# Altium footprint library Invensense.PcbLib: 2 footprints
Each footprint in its own frame and in the unit in brackets; x right, y up, seen from the top. Pads: shape width x height; smd on the part's side, far side on the other; paste and mask are expansions set on the pad; w line width, h text height; cw(c..) or ccw(c..) is an arc to the next point about the centre after c.
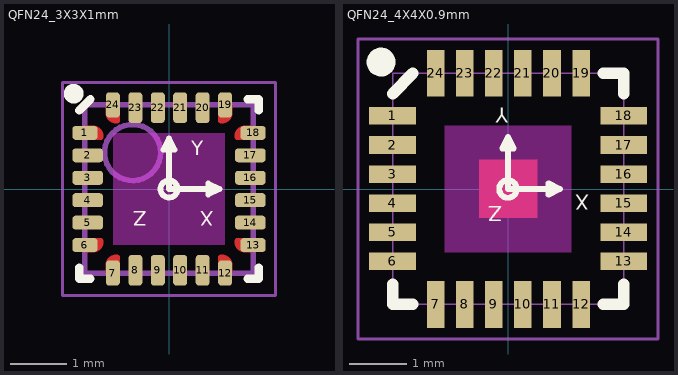
[diagram p0: the footprints below, top view; thin cyan lines are the x and y axes]

## QFN24_3X3X1mm [mm]
height 0.95
pads (24):
  rrect50% 0.45x0.25 smd: 1(-1.5,1) 6(-1.5,-1) 13(1.5,-1) 18(1.5,1)
  rrect50% 0.55x0.25 smd: 2(-1.45,0.6) 3(-1.45,0.2) 4(-1.45,-0.2) 5(-1.45,-0.6) 14(1.45,-0.6) 15(1.45,-0.2) 16(1.45,0.2) 17(1.45,0.6)
  rrect50% 0.25x0.45 smd: 7(-1,-1.5) 12(1,-1.5) 19(1,1.5) 24(-1,1.5)
  rrect50% 0.25x0.55 smd: 8(-0.6,-1.45) 9(-0.2,-1.45) 10(0.2,-1.45) 11(0.6,-1.45) 20(0.6,1.45) 21(0.2,1.45) 22(-0.2,1.45) 23(-0.6,1.45)
Top Layer:
  region: -1.5,0.875 -1.225,0.875 -1.215,0.875 -1.197,0.883 -1.183,0.897 -1.175,0.915 -1.175,0.925 -1.175,0.965 -1.175,0.979 -1.181,1.007 -1.192,1.034 -1.208,1.057 -1.218,1.068 -1.232,1.082 -1.243,1.093 -1.266,1.108 -1.293,1.119 -1.321,1.125 -1.335,1.125 -1.5,1.125
  region: -1.5,-0.875 -1.225,-0.875 -1.215,-0.875 -1.197,-0.883 -1.183,-0.897 -1.175,-0.915 -1.175,-0.925 -1.175,-0.965 -1.175,-0.979 -1.181,-1.007 -1.192,-1.034 -1.208,-1.057 -1.218,-1.068 -1.232,-1.082 -1.243,-1.093 -1.266,-1.108 -1.293,-1.119 -1.321,-1.125 -1.335,-1.125 -1.5,-1.125
  region: 0.875,-1.5 0.875,-1.225 0.875,-1.215 0.883,-1.197 0.897,-1.183 0.915,-1.175 0.925,-1.175 0.965,-1.175 0.979,-1.175 1.007,-1.181 1.034,-1.192 1.057,-1.208 1.068,-1.218 1.082,-1.232 1.093,-1.243 1.108,-1.266 1.119,-1.293 1.125,-1.321 1.125,-1.335 1.125,-1.5
  region: -0.875,-1.5 -0.875,-1.225 -0.875,-1.215 -0.883,-1.197 -0.897,-1.183 -0.915,-1.175 -0.925,-1.175 -0.965,-1.175 -0.979,-1.175 -1.007,-1.181 -1.034,-1.192 -1.057,-1.208 -1.068,-1.218 -1.082,-1.232 -1.093,-1.243 -1.108,-1.266 -1.119,-1.293 -1.125,-1.321 -1.125,-1.335 -1.125,-1.5
  region: 1.5,0.875 1.225,0.875 1.215,0.875 1.197,0.883 1.183,0.897 1.175,0.915 1.175,0.925 1.175,0.965 1.175,0.979 1.181,1.007 1.192,1.034 1.208,1.057 1.218,1.068 1.232,1.082 1.243,1.093 1.266,1.108 1.293,1.119 1.321,1.125 1.335,1.125 1.5,1.125
  region: 1.5,-0.875 1.225,-0.875 1.215,-0.875 1.197,-0.883 1.183,-0.897 1.175,-0.915 1.175,-0.925 1.175,-0.965 1.175,-0.979 1.181,-1.007 1.192,-1.034 1.208,-1.057 1.218,-1.068 1.232,-1.082 1.243,-1.093 1.266,-1.108 1.293,-1.119 1.321,-1.125 1.335,-1.125 1.5,-1.125
  region: -0.875,1.5 -0.875,1.225 -0.875,1.215 -0.883,1.197 -0.897,1.183 -0.915,1.175 -0.925,1.175 -0.965,1.175 -0.979,1.175 -1.007,1.181 -1.034,1.192 -1.057,1.208 -1.068,1.218 -1.082,1.232 -1.093,1.243 -1.108,1.266 -1.119,1.293 -1.125,1.321 -1.125,1.335 -1.125,1.5
  region: 0.875,1.5 0.875,1.225 0.875,1.215 0.883,1.197 0.897,1.183 0.915,1.175 0.925,1.175 0.965,1.175 0.979,1.175 1.007,1.181 1.034,1.192 1.057,1.208 1.068,1.218 1.082,1.232 1.093,1.243 1.108,1.266 1.119,1.293 1.125,1.321 1.125,1.335 1.125,1.5
Top Overlay:
  circle w0.102: c0,0 r0.152
  circle w0.25: c-1.7,1.7 r0.05
  lines w0.102: 0,0.902 0.1,0.7 -0.1,0.7 0,0.902 ; 0,0.902 0,0 0.9,0 ; 0.9,0 0.7,0.1 0.7,-0.1 0.9,0
  lines w0.15: -1.6,-1.4 -1.6,-1.6 -1.4,-1.6 ; -1.6,1.4 -1.4,1.6 ; 1.4,-1.6 1.6,-1.6 1.6,-1.4 ; 1.4,1.6 1.6,1.6 1.6,1.4
  text "Z" at -0.4,-0.4 h0.26
  text "Y" at 0.4,0.6 h0.26
  text "X" at 0.8,-0.4 h0.26
Top Solder:
  rectangle: -1.825,-1.225 -1.075,1.225
  region: 1.225,-1.825 1.225,-1.075 -1.225,-1.075 -1.225,-1.825
  region: 1.825,1.225 1.075,1.225 1.075,-1.225 1.825,-1.225
  region: -1.225,1.825 -1.225,1.075 1.225,1.075 1.225,1.825
Keep-Out Layer:
  rectangle: -1,-1 1,1
Mechanical 13:
  circle w0.1: c-0.65,0.65 r0.5
  lines w0.1: -1.5,-1.5 1.5,-1.5 1.5,1.5 -1.5,1.5 -1.5,-1.5
Mechanical 15:
  lines w0.05: -1.9,-1.9 1.9,-1.9 1.9,1.9 -1.9,1.9 -1.9,-1.9
  text ".Designator" at -1.7,-0.2 h1
3D body "User Library-MPU9250.step": height 1.05, standoff 0, extent -1.51,-1.51 1.51,1.51

## QFN24_4X4X0.9mm [mil] "QFN, 24-Leads, Body 3.00x3.00mm, Pitch 0.40mm, Thermal Pad 1.54x1.70mm, IPC High Density"
height 37.4
pads (24):
  rect 32x12 smd: 1(-78.74,50) 2(-78.74,30) 3(-78.74,10) 4(-78.74,-9.84) 5(-78.74,-29.53) 6(-78.74,-49.21) 13(79,-49.21) 14(79,-29.53) 15(79,-9.84) 16(79,10) 17(79,30) 18(79,50)
  rect 12x32 smd: 7(-49.21,-78.74) 8(-29.53,-78.74) 9(-9.84,-78.74) 10(10,-78.74) 11(30,-78.74) 12(50,-78.74) 19(50,79) 20(30,79) 21(10,79) 22(-9.84,79) 23(-29.53,79) 24(-49.21,79)
Top Layer:
  rectangle: -19.68,-19.68 20,20
Top Overlay:
  circle w4: c0,0 r6
  circle w9.84: c-86.61,86.61 r4.92
  lines w4: 0,35.5 0,0 35.43,0 ; 0,35.5 -3.94,27.56 3.94,27.56 0,35.5 ; 35.43,0 27.56,-3.94 27.56,3.94 35.43,0
  lines w8: -78.74,-64.96 -78.74,-78.74 -64.96,-78.74 ; -78.74,65 -64.96,79 ; 65,-78.74 79,-78.74 79,-64.96 ; 65,79 79,79 79,65
  text "X" at 55.37,-3.94 h10.2
  text "Y" at 0,55.5 h10.2
  text "Z" at -3.94,-11.81 h10.2
Top Paste:
  rectangle: -11.81,-11.81 12,12
Top Solder:
  rectangle: -19.68,-19.68 20,20
Keep-Out Layer:
  rectangle: -43.3,-43.3 43.31,43.31
Mechanical 13:
  lines w1: -78.74,-78.74 -78.74,79 79,79 79,-78.74 -78.74,-78.74
Mechanical 15:
  lines w1.97: -102.36,-102.36 102.36,-102.36 102.36,102.36 -102.36,102.36 -102.36,-102.36
  text ".Designator" at -86.61,-7.87 h39.37
3D body "MPU6000.STEP": height 35.43, standoff 0, extent -78.82,-78.83 78.82,78.81